# Altium schematic symbol library TRANS_PNP_SS8550.Schlib: 1 symbol
Pins are listed as number, name and electrical type; pins without a type are passive.

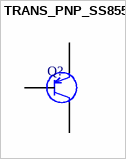
[diagram p0: symbol TRANS_PNP_SS8550]

## TRANS_PNP_SS8550
designator Q?, comment PNP  (value not drawn)
TRANS PNP 25V 1.5A
footprint TO-92-EBC
pins: 1 E, 2 B, 3 C